# Altium footprint library Connecteur.PcbLib: 164 footprints (part 10 of 11)
Each footprint in its own frame and in the unit in brackets; x right, y up, seen from the top. Pads: shape width x height; smd on the part's side, far side on the other; paste and mask are expansions set on the pad; w line width, h text height; cw(c..) or ccw(c..) is an arc to the next point about the centre after c.
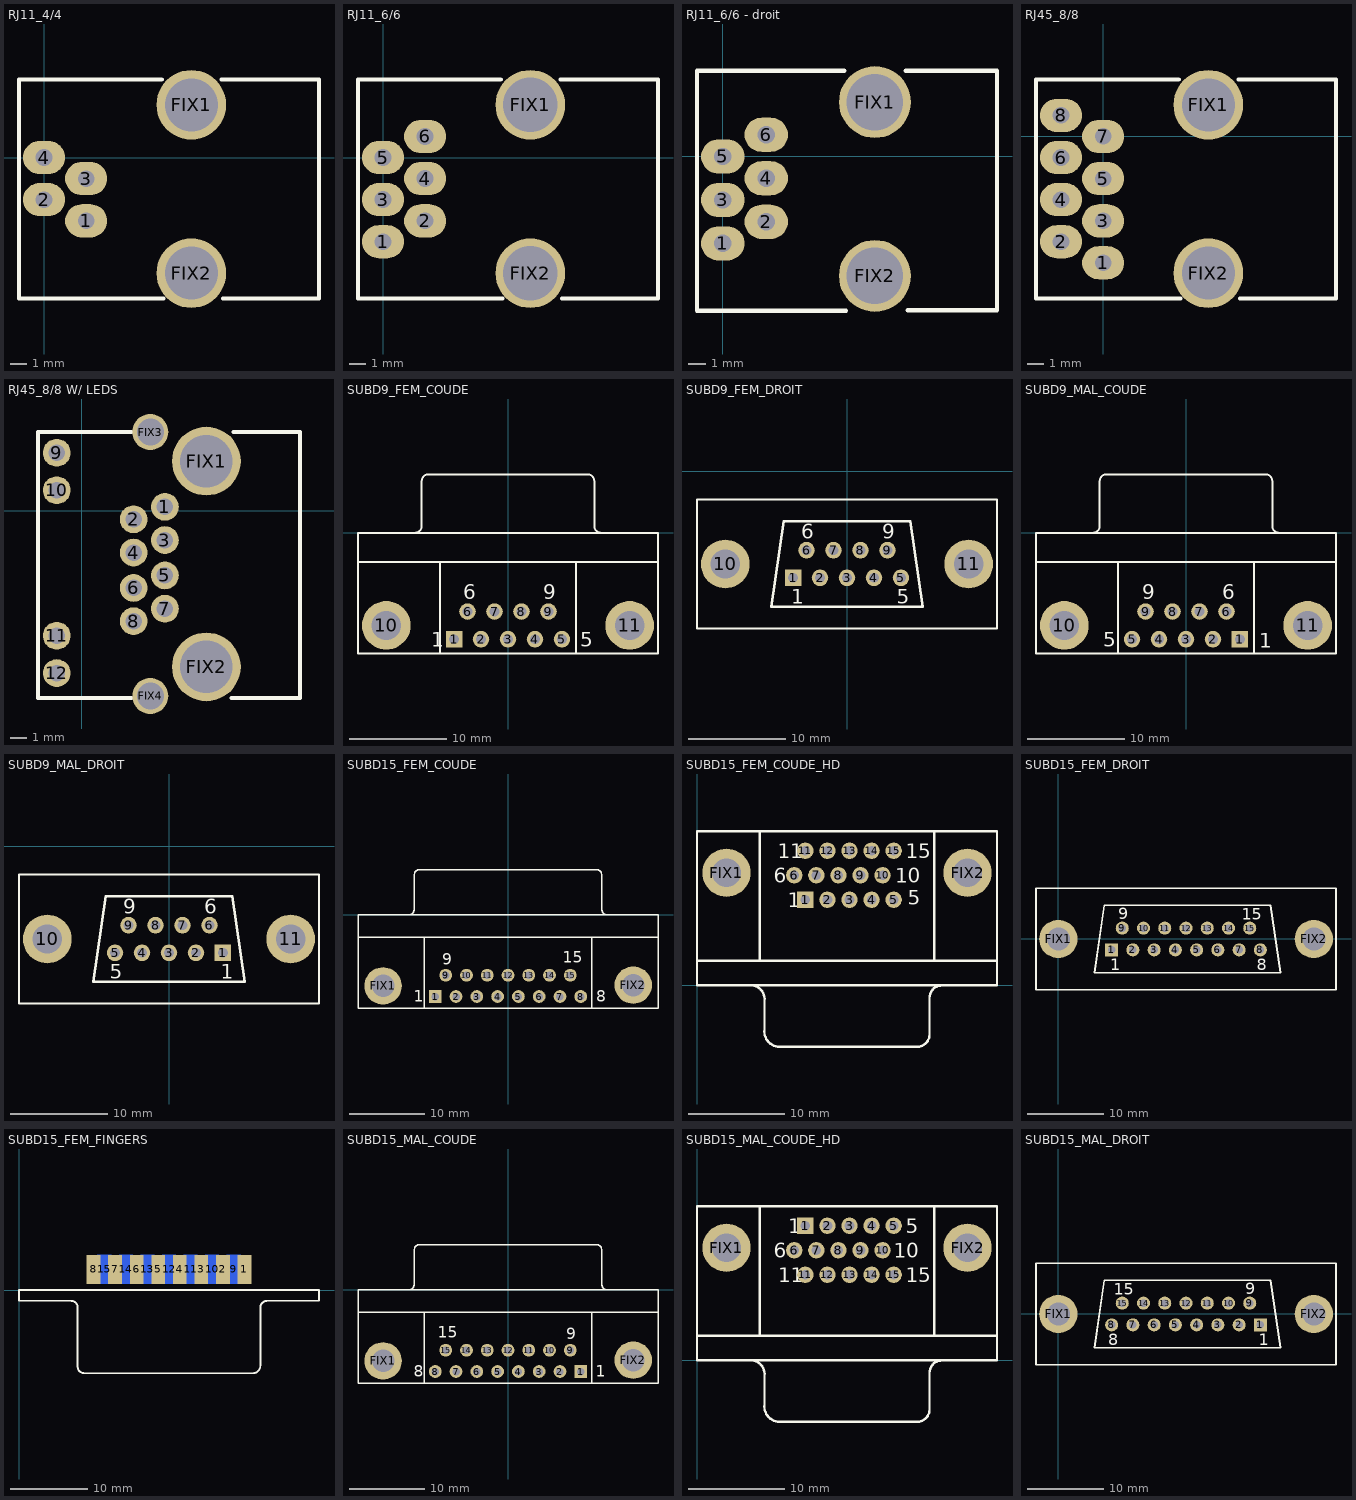
[diagram p9: the footprints below, top view; thin cyan lines are the x and y axes]

## RJ11_4/4 [mm] "Connector; RJ11; 4P/4C; Low Profil; Right Angle; Pin Spacing=2.54mm"
height 16
pads (6):
  oval 2.54x2 hole 1: 1(2.54,-3.82) 2(0,-2.54) 3(2.54,-1.27) 4(0,0)
  round 4.2 hole 3.2: FIX1(8.89,3.18) FIX2(8.89,-6.98)
Top Overlay:
  lines w0.254: 7.1,4.7 -1.51,4.7 -1.51,-8.51 7.2,-8.51 ; 10.7,4.7 16.59,4.7 16.59,-8.5 10.8,-8.5

## RJ11_6/6 [mm] "Connector; RJ11; 6P/6C; Low Profil; Right Angle; Pin Spacing=2.54mm"
height 16
pads (8):
  oval 2.54x2 hole 1.016: 1(0,-5.08) 2(2.54,-3.82) 3(0,-2.54) 4(2.54,-1.27) 5(0,0) 6(2.54,1.27)
  round 4.2 hole 3.302: FIX1(8.89,3.18) FIX2(8.89,-6.98)
Top Overlay:
  lines w0.254: 7.1,4.7 -1.51,4.7 -1.51,-8.51 7.2,-8.51 ; 10.7,4.7 16.59,4.7 16.59,-8.5 10.8,-8.5
3D body: height 16, standoff -4, extent -2.253,-8.428 17.747,4.572

## RJ11_6/6 - droit [mm] "Connector; RJ11; 6P/6C; Low Profil; Right Angle; Pin Spacing=2.54mm"
height 16
pads (8):
  oval 2.54x2 hole 1.016: 1(0,-5.08) 2(2.54,-3.82) 3(0,-2.54) 4(2.54,-1.27) 5(0,0) 6(2.54,1.27)
  round 4.2 hole 3.302: FIX1(8.89,3.18) FIX2(8.89,-6.98)
Top Overlay:
  lines w0.254: 7.1,5.004 -1.51,5.004 -1.51,-9.017 7.2,-9.017 ; 10.7,5.004 16.027,5.004 16.027,-8.992 10.8,-8.992
3D body: height 5.14, standoff -16.45, extent -0.444,-8.636 15.431,5.08
3D body: height 16.38, standoff 0, extent -8.678,-37.411 8.679,-23.39

## RJ45_8/8 [mm] "Connector; RJ45; 8P/8C; Low Profil; Right Angle; Pin Spacing=2.54mm"
height 16
pads (10):
  oval 2.54x2 hole 1: 1(0,-7.62) 2(-2.54,-6.35) 3(0,-5.09) 4(-2.54,-3.81) 5(0,-2.54) 6(-2.54,-1.27) 7(0,0) 8(-2.54,1.27)
  round 4.2 hole 3.2: FIX1(6.35,1.91) FIX2(6.35,-8.25)
Top Overlay:
  lines w0.254: 4.56,3.43 -4.05,3.43 -4.05,-9.78 4.66,-9.78 ; 8.16,3.43 14.05,3.43 14.05,-9.77 8.26,-9.77
3D body: height 12.48, standoff -2.45, extent -3.92,-10.922 14.08,4.278

## RJ45_8/8 W/ LEDS [mm] "Connector; RJ45; 8P/8C; Low Profil; Right Angle; Pin Spacing=2.54mm"
height 16
pads (16):
  round 1.7 hole 1.016: 1(5.08,0.254) 2(3.175,-0.508) 3(5.08,-1.778) 4(3.175,-2.54) 5(5.08,-3.937) 6(3.175,-4.699) 7(5.08,-5.969) 8(3.175,-6.731) 9(-1.524,3.556) 10(-1.524,1.27) 11(-1.524,-7.62) 12(-1.524,-9.906)
  round 4.2 hole 3.2: FIX1(7.62,3.048) FIX2(7.62,-9.525)
  round 2.2 hole 1.651: FIX3(4.191,4.826) FIX4(4.191,-11.303)
Top Overlay:
  lines w0.254: 3.048,-11.43 -2.667,-11.43 -2.667,4.826 3.048,4.826 ; 9.144,-11.43 13.335,-11.43 13.335,4.826 9.271,4.826 ; 4.699,-11.557 4.826,-11.43 ; 4.699,-11.557 4.826,-11.43 ; 4.699,-11.557 4.826,-11.43 ; 4.699,-11.557 4.826,-11.43
3D body: height 14.75, standoff -3.68, extent -2.788,-11.657 13.462,5.053

## SUBD9_FEM_COUDE [mm] "Connector; SUBD; 9 Position;Female; Right Angle; Pin Spacing=2.77mm/2.8mm"
height 12.75
pads (11):
  rect 1.7x1.7 hole 1: 1(-5.54,-10.92)
  round 1.7 hole 1: 2(-2.77,-10.92) 3(0,-10.92) 4(2.77,-10.92) 5(5.54,-10.92) 6(-4.155,-8.08) 7(-1.385,-8.08) 8(1.385,-8.08) 9(4.155,-8.08)
  round 5 hole 3: 10(-12.495,-9.5) 11(12.495,-9.5)
Top Overlay:
  lines w0.2: -15.4,-3 15.4,-3 ; -9.56,0.005 ccw(c-9.56,0.7) -8.865,0.7 -8.865,5.3 ; -8.86,5.305 cw(c-8.165,5.305) -8.165,6 8.165,6 cw(c8.165,5.305) 8.86,5.305 ; -7,-12.4 -7,-3 ; 7,-12.4 7,-3 ; 8.865,5.3 8.865,0.7 ccw(c9.56,0.7) 9.56,0.005 ; -15.4,-12.4 15.4,-12.4 15.4,0 -15.4,0 -15.4,-12.4
  text "6" at -4.6,-6.8 h1.5
  text "9" at 3.6,-6.8 h1.5
  text "5" at 7.4,-11.7 h1.5
  text "1" at -7.9,-11.7 h1.5
3D body: height 2.71, standoff -13.01, extent -15.38,-12.929 15.431,6.147

## SUBD9_FEM_DROIT [mm] "Connector; SUBD; 9 Position; Female; Pin Spacing=2.77mm/2.8mm"
height 12.75
pads (11):
  rect 1.7x1.7 hole 1: 1(-5.54,-10.92)
  round 1.7 hole 1: 2(-2.77,-10.92) 3(0,-10.92) 4(2.77,-10.92) 5(5.54,-10.92) 6(-4.155,-8.08) 7(-1.385,-8.08) 8(1.385,-8.08) 9(4.155,-8.08)
  round 5 hole 3: 10(-12.495,-9.5) 11(12.495,-9.5)
Top Overlay:
  lines w0.2: -15.4,-16.1 -15.4,-2.9 15.4,-2.9 15.4,-16.1 -15.4,-16.1
  lines w0.254: -7.8,-13.9 7.8,-13.9 6.5,-5.1 -6.5,-5.1 -7.8,-13.9
  text "1" at -5.7,-13.6 h1.5
  text "5" at 5.1,-13.6 h1.5
  text "9" at 3.6,-6.9 h1.5
  text "6" at -4.7,-6.9 h1.5

## SUBD9_MAL_COUDE [mm] "Connector; SUBD; 9 Position; Male; Right Angle; Pin Spacing=2.77mm/2.8mm"
height 12.75
pads (11):
  rect 1.7x1.7 hole 1: 1(5.54,-10.92)
  round 1.7 hole 1: 2(2.77,-10.92) 3(0,-10.92) 4(-2.77,-10.92) 5(-5.54,-10.92) 6(4.155,-8.08) 7(1.385,-8.08) 8(-1.385,-8.08) 9(-4.155,-8.08)
  round 5 hole 3: 10(-12.495,-9.5) 11(12.495,-9.5)
Top Overlay:
  lines w0.2: -15.4,-3 15.4,-3 ; -9.56,0.005 ccw(c-9.56,0.7) -8.865,0.7 -8.865,5.3 ; -8.86,5.305 cw(c-8.165,5.305) -8.165,6 8.165,6 cw(c8.165,5.305) 8.86,5.305 ; -7,-12.4 -7,-3 ; 7,-12.4 7,-3 ; 8.865,5.3 8.865,0.7 ccw(c9.56,0.7) 9.56,0.005 ; -15.4,-12.4 15.4,-12.4 15.4,0 -15.4,0 -15.4,-12.4
  text "6" at 3.7,-6.8 h1.5
  text "9" at -4.5,-6.8 h1.5
  text "5" at -8.5,-11.7 h1.5
  text "1" at 7.5,-11.8 h1.5
3D body: height 2.75, standoff -12.97, extent -15.392,-12.954 15.494,6.731

## SUBD9_MAL_DROIT [mm] "Connector; SUBD; 9 Position; Male; Pin Spacing=2.77mm/2.8mm"
height 12.75
pads (11):
  rect 1.7x1.7 hole 1: 1(5.54,-10.92)
  round 1.7 hole 1: 2(2.77,-10.92) 3(0,-10.92) 4(-2.77,-10.92) 5(-5.54,-10.92) 6(4.155,-8.08) 7(1.385,-8.08) 8(-1.385,-8.08) 9(-4.155,-8.08)
  round 5 hole 3: 10(-12.495,-9.5) 11(12.495,-9.5)
Top Overlay:
  lines w0.2: -15.4,-16.1 -15.4,-2.9 15.4,-2.9 15.4,-16.1 -15.4,-16.1
  lines w0.254: -7.8,-13.9 7.8,-13.9 6.5,-5.1 -6.5,-5.1 -7.8,-13.9
  text "1" at 5.3,-13.6 h1.5
  text "5" at -6.1,-13.6 h1.5
  text "9" at -4.7,-6.9 h1.5
  text "6" at 3.6,-6.9 h1.5

## SUBD15_FEM_COUDE [mm] "Connector; SUBD; 15 Position; Female; Right Angle; Pin Spacing=2.77mm/2.8mm"
height 12.75
pads (17):
  rect 1.7x1.7 hole 1: 1(-9.695,-10.92)
  round 1.7 hole 1: 2(-6.925,-10.92) 3(-4.155,-10.92) 4(-1.385,-10.92) 5(1.385,-10.92) 6(4.155,-10.92) 7(6.925,-10.92) 8(9.695,-10.92) 9(-8.31,-8.08) 10(-5.54,-8.08) 11(-2.77,-8.08) 12(0,-8.08) 13(2.77,-8.08) 14(5.54,-8.08) 15(8.31,-8.08)
  round 5 hole 3: FIX1(-16.66,-9.5) FIX2(16.7,-9.4)
Top Overlay:
  lines w0.2: -20,-3 20,-3 ; -13.195,0.005 ccw(c-13.195,0.7) -12.5,0.7 -12.5,5.3 ; -12.495,5.305 cw(c-11.8,5.305) -11.8,6 11.8,6 cw(c11.8,5.305) 12.495,5.305 ; -11.14,-12.5 -11.14,-3 ; 11.14,-12.5 11.14,-3 ; 12.5,5.3 12.5,0.7 ccw(c13.195,0.7) 13.195,0.005 ; -20,-12.5 20,-12.5 20,0 -20,0 -20,-12.5
  text "9" at -8.8,-6.7 h1.5
  text "15" at 7.3,-6.4 h1.5
  text "8" at 11.8,-11.6 h1.5
  text "1" at -12.6,-11.6 h1.5

## SUBD15_FEM_COUDE_HD [mm] "Connector; SUBD; 15 Position; Female; Right Angle; High Density; Pin Spacing=2.29mm/2.54mm"
height 12.75
pads (17):
  rect 1.7x1.7 hole 1: 1(11.24,8.89)
  round 1.7 hole 1: 2(13.53,8.89) 3(15.82,8.89) 4(18.11,8.89) 5(20.4,8.89) 6(10.09,11.43) 7(12.38,11.43) 8(14.67,11.43) 9(16.96,11.43) 10(19.25,11.43) 11(11.24,13.97) 12(13.53,13.97) 13(15.82,13.97) 14(18.11,13.97) 15(20.4,13.97)
  round 5 hole 3: FIX1(3.06,11.694) FIX2(28.06,11.694)
Top Overlay:
  lines w0.254: 0,2.54 31.12,2.54 ; 6.5,2.54 6.5,16 ; 7,-4.826 7,-1.58 ccw(c5.57,-1.43) 5.72,0 ; 7,-4.572 ccw(c8.58,-4.77) 8.382,-6.35 22.86,-6.35 ccw(c22.855,-5.085) 24.12,-5.08 24.12,-1.27 cw(c25.395,-1.275) 25.4,0 ; 24.62,2.54 24.62,16 ; 25.024,0 31.054,0 ; 25.278,0 5.72,0 ; 31.12,0 31.12,16 0,16 0,0 5.72,0
  text "6" at 7.938,10.668 h1.5
  text "11" at 8.382,13.208 h1.5
  text "15" at 21.654,13.208 h1.5
  text "10" at 20.574,10.668 h1.5
  text "5" at 21.844,8.382 h1.5
  text "1" at 9.398,8.128 h1.5

## SUBD15_FEM_DROIT [mm] "Connector; SUBD; 15 Position; Female; Pin Spacing=2.77mm/2.8mm"
height 12.75
pads (17):
  rect 1.7x1.7 hole 1: 1(6.955,-1.42)
  round 1.7 hole 1: 2(9.725,-1.42) 3(12.495,-1.42) 4(15.265,-1.42) 5(18.035,-1.42) 6(20.805,-1.42) 7(23.575,-1.42) 8(26.345,-1.42) 9(8.34,1.42) 10(11.11,1.42) 11(13.88,1.42) 12(16.65,1.42) 13(19.42,1.42) 14(22.19,1.42) 15(24.96,1.42)
  round 5 hole 3: FIX1(0,0) FIX2(33.31,0)
Top Overlay:
  lines w0.2: -2.905,-6.6 -2.905,6.6 36.2,6.6 36.2,-6.6 -2.905,-6.6
  lines w0.254: 4.695,-4.4 28.954,-4.4 27.654,4.4 5.995,4.4 4.695,-4.4
  text "8" at 25.84,-4.08 h1.5
  text "1" at 6.8,-4.1 h1.5
  text "9" at 7.795,2.6 h1.5
  text "15" at 23.94,2.52 h1.5

## SUBD15_FEM_FINGERS [mm] "Connector; SUBD; 15 Position; Female; Fingers; Pin Spacing=2.8mm"
height 6.2
pads (15):
  rect 1.8x3.8 smd: 1(29.3,2.7) 2(26.5,2.7) 3(23.7,2.7) 4(20.9,2.7) 5(18.1,2.7) 6(15.3,2.7) 7(12.5,2.7) 8(9.7,2.7)
  rect 1.8x3.8 smd far side: 9(27.9,2.7) 10(25.1,2.7) 11(22.3,2.7) 12(19.5,2.7) 13(16.7,2.7) 14(13.9,2.7) 15(11.1,2.7)
Top Overlay:
  lines w0.254: 32.29,-1.38 39,-1.38 39,0 0,0 0,-1.38 6.7,-1.38 cw(c6.755,-2.255) 7.63,-2.31 7.63,-10 ccw(c8.465,-9.965) 8.5,-10.8 30.4,-10.8 ccw(c30.385,-9.815) 31.37,-9.8 31.37,-2.3 cw(c32.295,-2.305) 32.3,-1.38

## SUBD15_MAL_COUDE [mm] "Connector; SUBD; 15 Position; Male; Right Angle; Pin Spacing=2.77mm/2.8mm"
height 12.75
pads (17):
  rect 1.7x1.7 hole 1: 1(9.695,-10.92)
  round 1.7 hole 1: 2(6.925,-10.92) 3(4.155,-10.92) 4(1.385,-10.92) 5(-1.385,-10.92) 6(-4.155,-10.92) 7(-6.925,-10.92) 8(-9.695,-10.92) 9(8.31,-8.08) 10(5.54,-8.08) 11(2.77,-8.08) 12(0,-8.08) 13(-2.77,-8.08) 14(-5.54,-8.08) 15(-8.31,-8.08)
  round 5 hole 3: FIX1(-16.66,-9.5) FIX2(16.7,-9.4)
Top Overlay:
  lines w0.2: -20,-3 20,-3 ; -13.195,0.005 ccw(c-13.195,0.7) -12.5,0.7 -12.5,5.3 ; -12.495,5.305 cw(c-11.8,5.305) -11.8,6 11.8,6 cw(c11.8,5.305) 12.495,5.305 ; -11.14,-12.5 -11.14,-3 ; 11.14,-12.5 11.14,-3 ; 12.5,5.3 12.5,0.7 ccw(c13.195,0.7) 13.195,0.005 ; -20,-12.5 -20,0 20,0 20,-12.5 -20,-12.5
  text "8" at -12.6,-11.6 h1.5
  text "1" at 11.7,-11.6 h1.5
  text "9" at 7.8,-6.6 h1.5
  text "15" at -9.4,-6.4 h1.5

## SUBD15_MAL_COUDE_HD [mm] "Connector; SUBD; 15 Position; Male; Right Angle; High Density; Pin Spacing=2.29mm/2.54mm"
height 12.75
pads (17):
  rect 1.7x1.7 hole 1: 1(11.24,13.97)
  round 1.7 hole 1: 2(13.53,13.97) 3(15.82,13.97) 4(18.11,13.97) 5(20.4,13.97) 6(10.09,11.43) 7(12.38,11.43) 8(14.67,11.43) 9(16.96,11.43) 10(19.25,11.43) 11(11.24,8.89) 12(13.53,8.89) 13(15.82,8.89) 14(18.11,8.89) 15(20.4,8.89)
  round 5 hole 3: FIX1(3.06,11.694) FIX2(28.06,11.694)
Top Overlay:
  lines w0.254: 0,2.54 31.12,2.54 ; 6.5,2.54 6.5,16 ; 7,-4.826 7,-1.58 ccw(c5.57,-1.43) 5.72,0 ; 7,-4.572 ccw(c8.58,-4.77) 8.382,-6.35 22.86,-6.35 ccw(c22.855,-5.085) 24.12,-5.08 24.12,-1.27 cw(c25.395,-1.275) 25.4,0 ; 24.62,2.54 24.62,16 ; 25.024,0 31.054,0 ; 25.278,0 5.72,0 ; 31.12,0 31.12,16 0,16 0,0 5.72,0
  text "11" at 8.446,8.128 h1.5
  text "15" at 21.654,8.128 h1.5
  text "10" at 20.384,10.668 h1.5
  text "5" at 21.654,13.208 h1.5
  text "1" at 9.462,13.208 h1.5
  text "6" at 7.938,10.668 h1.5

## SUBD15_MAL_DROIT [mm] "Connector; SUBD; 15 Position; Male; Pin Spacing=2.77mm/2.8mm"
height 12.75
pads (17):
  rect 1.7x1.7 hole 1: 1(26.345,-1.42)
  round 1.7 hole 1: 2(23.575,-1.42) 3(20.805,-1.42) 4(18.035,-1.42) 5(15.265,-1.42) 6(12.495,-1.42) 7(9.725,-1.42) 8(6.955,-1.42) 9(24.96,1.42) 10(22.19,1.42) 11(19.42,1.42) 12(16.65,1.42) 13(13.88,1.42) 14(11.11,1.42) 15(8.34,1.42)
  round 5 hole 3: FIX1(0,0) FIX2(33.31,0)
Top Overlay:
  lines w0.2: -2.905,-6.6 -2.905,6.6 36.2,6.6 36.2,-6.6 -2.905,-6.6
  lines w0.254: 4.695,-4.4 28.954,-4.4 27.654,4.4 5.995,4.4 4.695,-4.4
  text "1" at 26.1,-4.1 h1.5
  text "8" at 6.5,-4.1 h1.5
  text "15" at 7.2,2.5 h1.5
  text "9" at 24.4,2.6 h1.5